# Altium footprint library FILLER_PCB.PcbLib: 2 footprints
Each footprint in its own frame and in the unit in brackets; x right, y up, seen from the top. Pads: shape width x height; smd on the part's side, far side on the other; paste and mask are expansions set on the pad; w line width, h text height; cw(c..) or ccw(c..) is an arc to the next point about the centre after c.
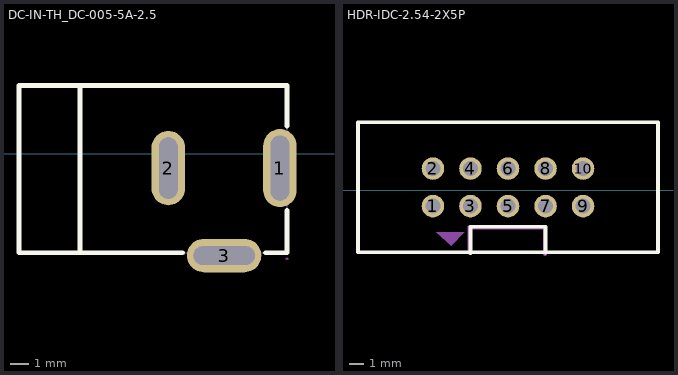
[diagram p0: the footprints below, top view; thin cyan lines are the x and y axes]

## DC-IN-TH_DC-005-5A-2.5 [mm]
pads (3):
  oval 1.8x4.2 hole 1 slot 3.5 at 90 deg paste-2539.97 mask+0.051: 1(87.942,-0.759)
  oval 1.8x4 hole 1 slot 3.3 at 90 deg paste-2539.97 mask+0.051: 2(81.942,-0.759)
  oval 4x1.8 hole 1 slot 3.3 at 0 deg paste-2539.97 mask+0.051: 3(84.942,-5.462)
Top Overlay:
  lines w0.254: 73.914,3.686 88.322,3.686 88.322,1.506 ; 73.914,3.695 73.914,-5.305 82.722,-5.305 ; 77.195,-5.314 77.195,3.686 ; 87.162,-5.305 88.322,-5.305 88.322,-3.024
Mechanical 15:
  region: 88.382,-5.637 88.381,-5.613 88.346,-5.58 88.298,-5.58 88.263,-5.613 88.262,-5.637 88.263,-5.661 88.298,-5.695 88.346,-5.695 88.381,-5.661
  region: 83.692,-5.287 86.192,-5.287 86.192,-5.637 83.692,-5.637
  region: 81.767,-2.009 81.767,0.491 82.117,0.491 82.117,-2.009
  region: 88.117,0.741 88.117,-2.259 87.767,-2.259 87.767,0.741
  lines w0.051: 73.914,-5.305 88.322,-5.305 88.322,3.686 73.914,3.686 73.914,-5.305

## HDR-IDC-2.54-2X5P [mil] "HDR-IDC-2.54-2X5P"
pads (10):
  round 60 hole 39.37 paste-99999 mask+1.97: 1(1569.61,-42.84) 2(1569.61,57.16) 3(1669.61,-42.84) 4(1669.61,57.16) 5(1769.61,-42.84) 6(1769.61,57.16) 7(1869.61,-42.84) 8(1869.61,57.16) 9(1969.61,-42.84) 10(1969.61,57.16)
Top Overlay:
  lines w10: 1671.61,-164.84 1669.61,-167.84 1669.61,-97.83 1869.61,-97.83 1869.61,-166.84 1869.61,-164.84 ; 1370,-166.06 2169.21,-166.06 2169.21,180.4 1370,180.4 1370,-166.06
Mechanical 15:
  region: 1578.66,-112.91 1653.47,-112.91 1618.04,-148.35
  region: 1662.25,-166.06 1662.25,-99.13 1662.25,-98.14 1663.01,-96.3 1664.42,-94.9 1666.25,-94.13 1667.25,-94.13 1868.04,-94.13 1869.03,-94.13 1870.87,-94.9 1872.27,-96.3 1873.04,-98.14 1873.04,-99.13 1873.04,-170 1873.04,-172.07 1870.11,-175 1865.96,-175 1863.04,-172.07 1863.04,-170 1863.04,-104.13 1672.25,-104.13 1672.25,-166.06 1672.25,-168.13 1669.32,-171.06 1665.18,-171.06 1662.25,-168.13